# Altium footprint library HANDS-FREE-PCBLIB-V2.0.PcbLib: 236 footprints (part 5 of 16)
Each footprint in its own frame and in the unit in brackets; x right, y up, seen from the top. Pads: shape width x height; smd on the part's side, far side on the other; paste and mask are expansions set on the pad; w line width, h text height; cw(c..) or ccw(c..) is an arc to the next point about the centre after c.
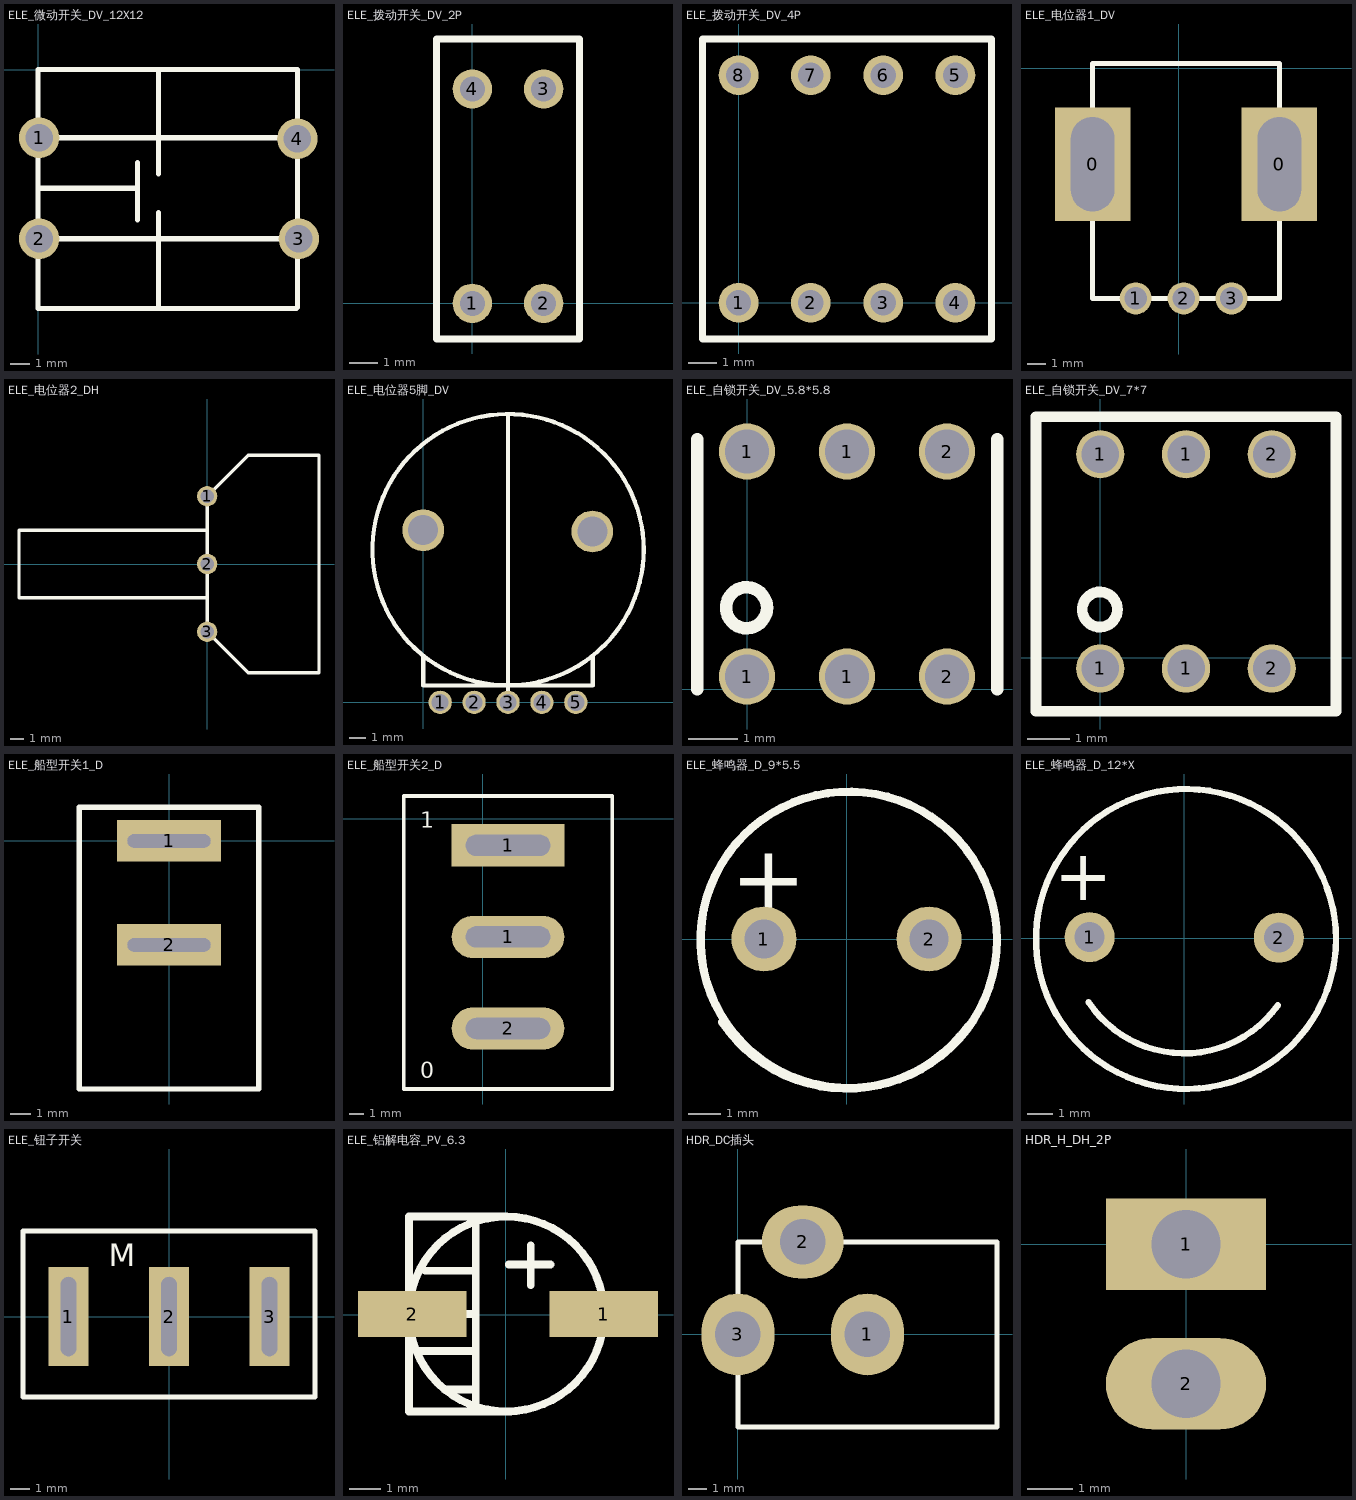
[diagram p4: the footprints below, top view; thin cyan lines are the x and y axes]

## ELE_微动开关_DV_12X12 [mil]
pads (4):
  round 80 hole 55: 1(2,-135) 2(2,-335) 3(516,-335) 4(513,-137)
Top Overlay:
  lines w7.87: 0,-232 3,-235
  lines w10: 0,-469 0,0 234,0 513,0 513,-137 513,-222 513,-471 511,-473 469,-473 0,-473 235,-473 ; 2,-335 515,-335 516,-336 ; 2,-135 511,-135 512,-136 ; 3,-235 191,-235 ; 197,-298 197,-184 ; 238,-467 238,-283 ; 238,-207 238,-97 238,-83.75 238,-29.25 238,-2

## ELE_拨动开关_DV_2P [mil]
pads (4):
  round 55 hole 35: 1(0,0) 2(100,0) 3(100,300) 4(0,300)
Top Overlay:
  lines w10: -50,365 -50,370 ; -50,370 150,370 150,-50 -50,-50 -50,370

## ELE_拨动开关_DV_4P [mil]
pads (8):
  round 55 hole 35: 1(0,0) 2(100,0) 3(200,0) 4(300,0) 5(300,315) 6(200,315) 7(100,315) 8(0,315)
Top Overlay:
  lines w10: -50,-50 300,-50 350,-50 350,365 0,365 -50,365 -50,200 -50,-50

## ELE_电位器1_DV [mm]
pads (5):
  rect 4x6 hole 2.3 slot 5 at 90 deg: 0(-4.572,-5.08) 0(5.334,-5.08)
  round 1.7 hole 1.2: 1(-2.286,-12.192) 2(0.254,-12.192) 3(2.794,-12.192)
Top Overlay:
  lines w0.254: -4.572,-12.192 5.334,-12.192 5.334,0.254 -4.572,0.254 -4.572,-12.192

## ELE_电位器2_DH [mil]
pads (3):
  round 60 hole 40: 1(0,200) 2(0,0) 3(0,-200)
Top Overlay:
  lines w10: 0,-100 -555,-100 -555,100 0,100 ; 0,-200 0,200 121,321 330,321 330,-321 121,-321 0,-200

## ELE_电位器5脚_DV [mil]
pads (7):
  round 55 hole 40: 1(40,0) 2(120,0) 3(200,0) 4(280,0) 5(360,0)
  round 98.43 hole 70.87: ""(0,406) ""(399,403)
Top Overlay:
  circle w10: c200,360 r320
  lines w10: 0,110 0,40 400,40 400,110 ; 198,680 200,678 200,0

## ELE_自锁开关_DV_5.8*5.8 [mil]
pads (6):
  round 45 hole 35: 1(0,10) 1(0,190) 1(80,10) 1(80,190) 2(160,10) 2(160,190)
Top Overlay:
  circle w10: c-0.4,65 r16.4
  lines w10: -40,0 -40,200 ; 200,0 200,200

## ELE_自锁开关_DV_7*7 [mil]
pads (6):
  round 45 hole 35: 1(0,-10) 1(0,190) 1(80,-10) 1(80,190) 2(160,-10) 2(160,190)
Top Overlay:
  circle w10: c-0.4,45 r16.4
  lines w10: -60,-50 -60,225 220,225 220,-50 -60,-50

## ELE_船型开关1_D [mm]
pads (2):
  rect 5x2 hole 0.65 slot 4 at 0 deg: 1(0,0) 2(0,-5.004)
Top Overlay:
  lines w0.254: -4.318,-11.938 4.318,-11.938 4.318,1.626 -4.318,1.626 -4.318,-11.938

## ELE_船型开关2_D [mm]
pads (3):
  oval 8x3 hole 1.5 slot 6 at 0 deg: 1(1.778,-8.379) 2(1.778,-14.879)
  rect 8x3 hole 1.5 slot 6 at 0 deg: 1(1.778,-1.88)
Top Overlay:
  lines w0.254: -5.622,-19.174 1.778,-19.174 9.178,-19.174 9.178,-8.774 9.178,1.626 1.778,1.626 -5.622,1.626 -5.622,-8.774 -5.622,-19.174
  text "0" at -4.445,-18.415 h1.14
  text "1" at -4.445,-0.635 h1.14

## ELE_蜂鸣器_D_9*5.5 [mm]
pads (2):
  round 2 hole 1.2: 1(-2.54,0) 2(2.54,0)
Top Overlay:
  circle w0.254: c0.071,-0.025 r4.56
  lines w0.254: -3.828,-2.552 ccw(c0,0) 3.743,-2.674
  text "+" at -3.556,0.889 h2.03

## ELE_蜂鸣器_D_12*X [mm]
pads (2):
  round 2 hole 1.2: 1(-3.785,0.051) 2(3.785,0.025)
Top Overlay:
  circle w0.254: c0.071,-0.025 r6
  lines w0.254: -3.828,-2.552 ccw(c0,0) 3.743,-2.674
  text "+" at -5.207,1.524 h2.03

## ELE_钮子开关 [mm]
pads (3):
  rect 2x5 hole 0.8 slot 4 at 90 deg: 1(-5.08,0) 2(0,0) 3(5.08,0)
Top Overlay:
  lines w0.254: -7.366,-4.064 -7.366,4.318 ; -7.366,-4.064 7.366,-4.064 ; -7.366,-4.064 7.366,-4.064 ; -7.366,-4.064 -7.366,4.318 ; -7.366,4.318 7.366,4.318 ; -7.366,4.318 7.366,4.318 ; 7.366,-4.064 7.366,4.318 ; 7.366,-4.064 7.366,4.318
  text "M" at -3.048,2.54 h1.14

## ELE_铝解电容_PV_6.3 [mm]
height 7.7
pads (2):
  rect 3.5x1.5 smd: 1(3.175,0.025) 2(-3.023,0.025)
Top Overlay:
  circle w0.254: c0.025,0.025 r3.15
  lines w0.254: -3.023,0.025 -0.991,0.025 ; -2.87,-1.168 -0.965,-1.168 ; -2.591,1.422 -1.118,1.422 ; -1.905,-2.413 -0.965,-2.413 ; -0.965,-2.896 -0.965,2.946 ; 0,3.175 -3.124,3.175 -3.124,-3.124 0.152,-3.124 ; 0.102,1.626 1.448,1.626 ; 0.813,0.965 0.813,2.235

## HDR_DC插头 [mm]
height 11
pads (3):
  oval 4x4.5 hole 2.5: 1(7.112,0) 3(0,0)
  oval 4.5x4 hole 2.5: 2(3.556,5.08)
Top Overlay:
  lines w0.254: 0,-5.08 14.224,-5.08 14.224,-4.572 14.224,4.572 14.224,5.08 0,5.08 0,-4.064 0,-5.08

## HDR_H_DH_2P [mm]
pads (2):
  rect 3.5x2 hole 1.5: 1(0,0)
  oval 3.5x2 hole 1.5: 2(0,-3.048)